# EAGLE library part ?M20B-SRSS-TB (library con-jst)
Disconnectable Crimp style connector, 1.0mm pitch 20 contacts
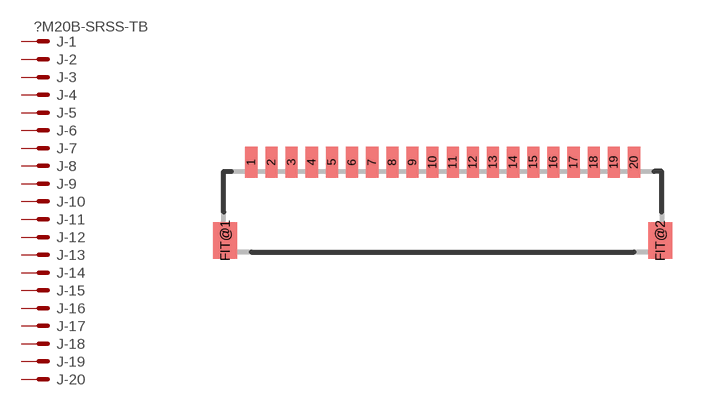
[diagram p32: symbol with the pads of SM20B-SRSS-TB; footprint SM20B-SRSS-TB]

Designator prefix J; gates -1=KV -2=K -3=K -4=K -5=K -6=K -7=K -8=K -9=K -10=K -11=K -12=K -13=K -14=K -15=K -16=K -17=K -18=K -19=K -20=K

## SM20B-SRSS-TB  [SM20B-SRSS-TB]
1  -1:S  pas
2  -2:S  pas
3  -3:S  pas
4  -4:S  pas
5  -5:S  pas
6  -6:S  pas
7  -7:S  pas
8  -8:S  pas
9  -9:S  pas
10  -10:S  pas
11  -11:S  pas
12  -12:S  pas
13  -13:S  pas
14  -14:S  pas
15  -15:S  pas
16  -16:S  pas
17  -17:S  pas
18  -18:S  pas
19  -19:S  pas
20  -20:S  pas

## Footprint SM20B-SRSS-TB (pad centres in mm)
Shrouded Header, side entry type
smd 0.6 x 1.55: 1 -9.5,2.975; 2 -8.5,2.975; 3 -7.5,2.975; 4 -6.5,2.975; 5 -5.5,2.975; 6 -4.5,2.975; 7 -3.5,2.975; 8 -2.5,2.975; 9 -1.5,2.975; 10 -0.5,2.975; 11 0.5,2.975; 12 1.5,2.975; 13 2.5,2.975; 14 3.5,2.975; 15 4.5,2.975; 16 5.5,2.975; 17 6.5,2.975; 18 7.5,2.975; 19 8.5,2.975; 20 9.5,2.975
smd 1.2 x 1.8: FIT@1 -10.8,-0.9; FIT@2 10.8,-0.9